# Altium footprint library misc.PcbLib: 26 footprints (part 1 of 2)
Each footprint in its own frame and in the unit in brackets; x right, y up, seen from the top. Pads: shape width x height; smd on the part's side, far side on the other; paste and mask are expansions set on the pad; w line width, h text height; cw(c..) or ccw(c..) is an arc to the next point about the centre after c.
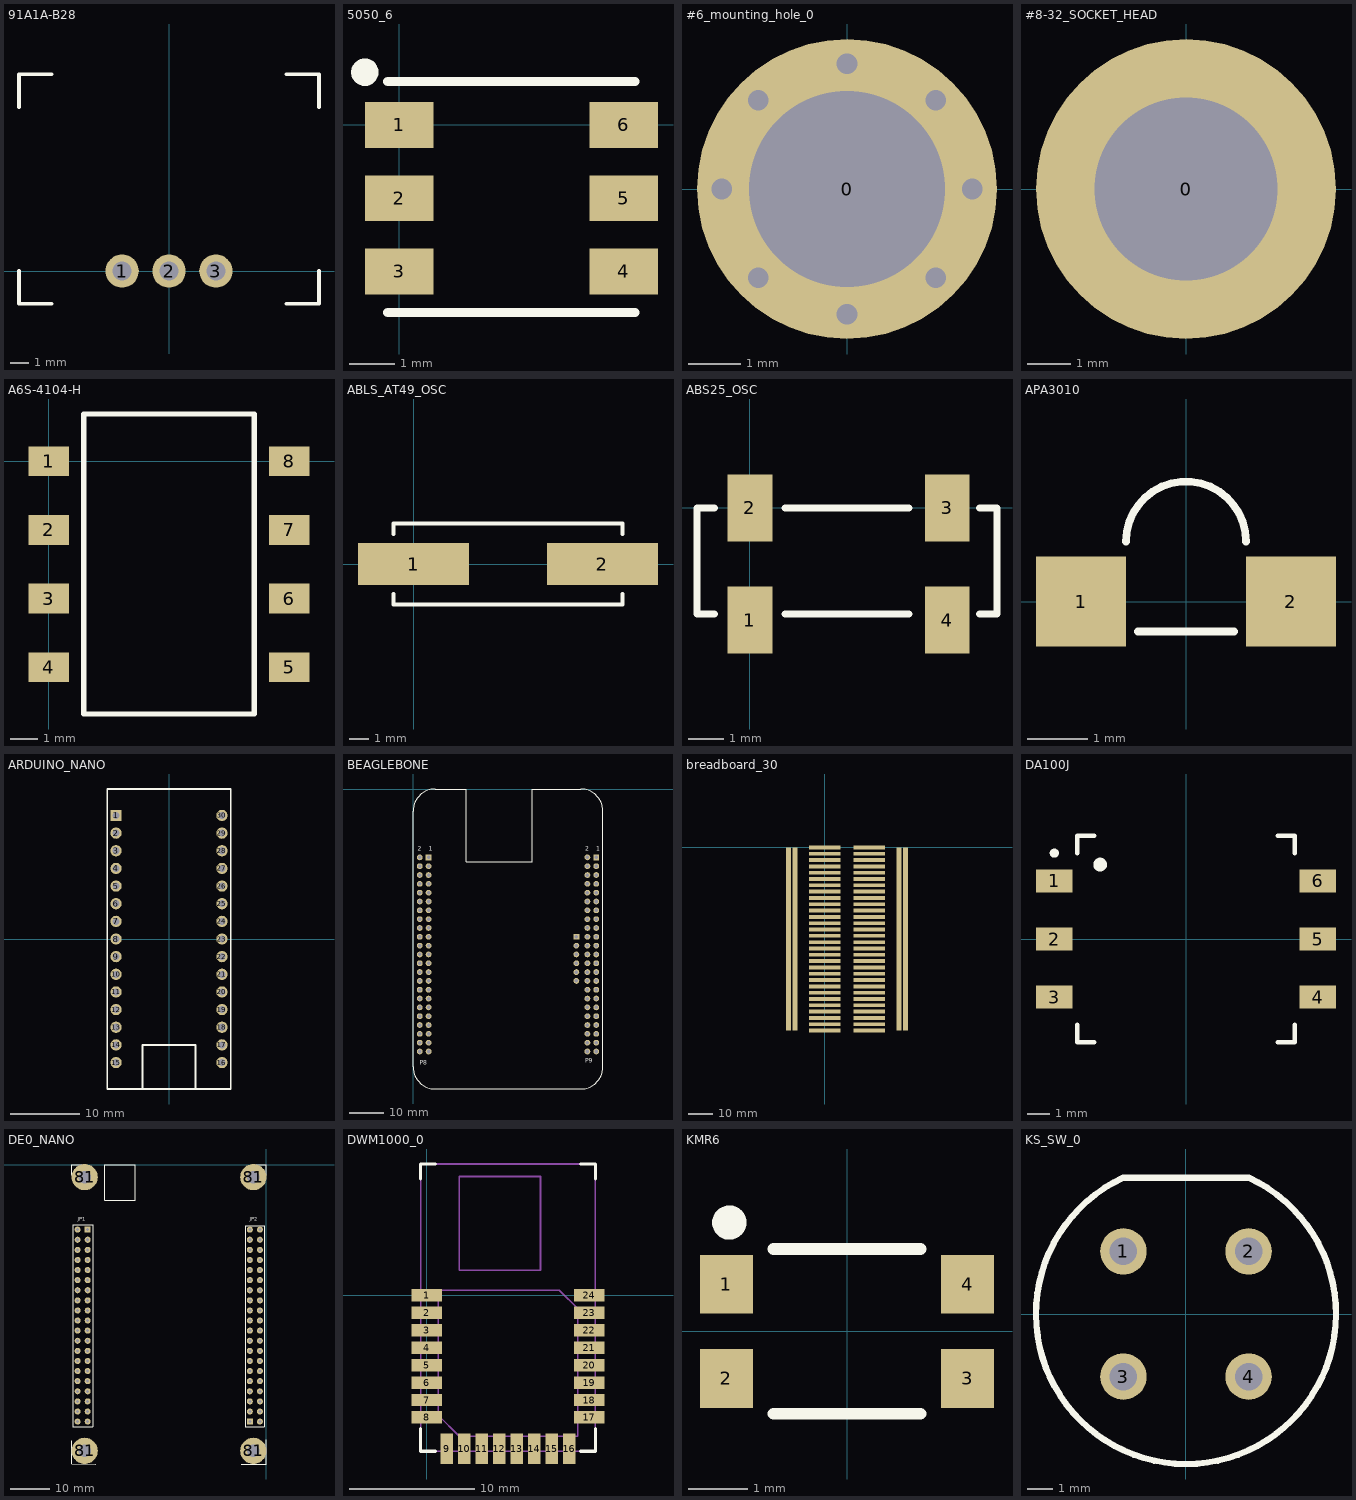
[diagram p0: the footprints below, top view; thin cyan lines are the x and y axes]

## 91A1A-B28 [mil] "Bourns Potentiometer"
pads (3):
  round 70 hole 40: 1(-98.43,0) 2(0,0) 3(98.43,0)
Top Overlay:
  lines w7.87: -314.96,0 -314.96,-68.9 -246.06,-68.9 ; -314.96,344.49 -314.96,413.39 -246.06,413.39 ; 246.06,-68.9 314.96,-68.9 314.96,0 ; 246.06,413.39 314.96,413.39 314.96,344.49
3D body "91A1A-B28.stp": height 687, standoff -600, extent -312.5,-65 312.5,1310

## 5050_6 [mm]
pads (6):
  rect 1.5x1 smd: 1(0,0) 2(0,-1.6) 3(0,-3.2) 4(4.9,-3.2) 5(4.9,-1.6) 6(4.9,0)
Top Overlay:
  circle w0.3: c-0.75,1.15 r0.15
  lines w0.2: -0.25,-4.1 5.15,-4.1 ; -0.25,0.95 5.15,0.95
3D body "11821.SLDPRT": height 1.73, standoff -0.02, extent -0.25,-4.1 5.15,0.9

## #6_mounting_hole_0 [mm]
pads (1):
  round 5.75 hole 3.75: 0(0,0)
via -1.7,1.7 diameter 0.8 hole 0.4
via -1.7,-1.7 diameter 0.8 hole 0.4
via 1.7,-1.7 diameter 0.8 hole 0.4
via 1.7,1.7 diameter 0.8 hole 0.4
via -2.4,0 diameter 0.8 hole 0.4
via 2.4,0 diameter 0.8 hole 0.4
via 0,-2.4 diameter 0.8 hole 0.4
via 0,2.4 diameter 0.8 hole 0.4

## #8-32_SOCKET_HEAD [mm] "Mounting hole for #8-32 socket head cap screw"
pads (1):
  round 6.9 hole 4.2: 0(0,0)

## A6S-4104-H [mm]
pads (8):
  rect 1.5x1.1 smd: 1(0,0) 2(0,-2.54) 3(0,-5.08) 4(0,-7.62) 5(8.9,-7.62) 6(8.9,-5.08) 7(8.9,-2.54) 8(8.9,0)
Top Overlay:
  lines w0.2: 1.3,-9.35 1.3,1.75 7.6,1.75 7.6,-9.35 1.3,-9.35
3D body "A6S_4104_H.step": height 4.4, standoff 0, extent -0.45,-9.35 9.35,1.75

## ABLS_AT49_OSC [mil] "ABLS Crystal Oscillator"
pads (2):
  rect 220x83 smd: 1(0,0) 2(374,0)
Top Overlay:
  lines w8: -39.37,-59.06 -39.37,-80 413.39,-80 413.39,-59.06 ; -39.37,59.06 -39.37,80 413.39,80 413.39,59.06

## ABS25_OSC [mil] "Abracon Tuning Fork Oscillators"
pads (4):
  rect 50x75 smd: 1(0,-125) 2(0,0) 3(220,0) 4(220,-125)
Top Overlay:
  lines w8: -39.37,-118.11 -59.06,-118.11 -59.06,0 -39.37,0 ; 39.37,-118.11 177.17,-118.11 ; 39.37,0 177.17,0 ; 255.91,-118.11 275.59,-118.11 275.59,-59.06 275.59,0 255.91,0

## APA3010 [mm] "SMD Right Angle LED"
pads (2):
  rect 1.5x1.5 smd: 1(-1.75,0) 2(1.75,0)
Top Overlay:
  lines w0.127: -1,1 cw(c0,1) 1,1 ; -0.8,-0.5 0.8,-0.5

## ARDUINO_NANO [mil] "Arduino Nano, ATMega328 Dev Board"
pads (30):
  rect 64x64 hole 40: 1(-300,700)
  round 64 hole 40: 2(-300,600) 3(-300,500) 4(-300,400) 5(-300,300) 6(-300,200) 7(-300,100) 8(-300,0) 9(-300,-100) 10(-300,-200) 11(-300,-300) 12(-300,-400) 13(-300,-500) 14(-300,-600) 15(-300,-700) 16(300,-700) 17(300,-600) 18(300,-500) 19(300,-400) 20(300,-300) 21(300,-200) 22(300,-100) 23(300,0) 24(300,100) 25(300,200) 26(300,300) 27(300,400) 28(300,500) 29(300,600) 30(300,700)
Top Overlay:
  lines w10: -150,-850 -150,-600 150,-600 150,-850 ; -350,-850 -350,850 350,850 350,-850 -350,-850

## BEAGLEBONE [mil] "Pin-header footprint for Beaglebone single board computers"
pads (98):
  rect 65x65 hole 40: 1(175,-775) 47(2075,-775) J1_1(1850,-1675)
  round 65 hole 40: 2(75,-775) 3(175,-875) 4(75,-875) 5(175,-975) 6(75,-975) 7(175,-1075) 8(75,-1075) 9(175,-1175) 10(75,-1175) 11(175,-1275) 12(75,-1275) 13(175,-1375) 14(75,-1375) 15(175,-1475) 16(75,-1475) 17(175,-1575) 18(75,-1575) 19(175,-1675) 20(75,-1675) 21(175,-1775) 22(75,-1775) 23(175,-1875) 24(75,-1875) 25(175,-1975) 26(75,-1975) 27(175,-2075) 28(75,-2075) 29(175,-2175) 30(75,-2175) 31(175,-2275) 32(75,-2275) 33(175,-2375) 34(75,-2375) 35(175,-2475) 36(75,-2475) 37(175,-2575) 38(75,-2575) 39(175,-2675) 40(75,-2675) 41(175,-2775) 42(75,-2775) 43(175,-2875) 44(75,-2875) 45(175,-2975) 46(75,-2975) 48(1975,-775) 49(2075,-875) 50(1975,-875) 51(2075,-975) 52(1975,-975) 53(2075,-1075) 54(1975,-1075) 55(2075,-1175) 56(1975,-1175) 57(2075,-1275) 58(1975,-1275) 59(2075,-1375) 60(1975,-1375) 61(2075,-1475) 62(1975,-1475) 63(2075,-1575) 64(1975,-1575) 65(2075,-1675) 66(1975,-1675) 67(2075,-1775) 68(1975,-1775) 69(2075,-1875) 70(1975,-1875) 71(2075,-1975) 72(1975,-1975) 73(2075,-2075) 74(1975,-2075) 75(2075,-2175) 76(1975,-2175) 77(2075,-2275) 78(1975,-2275) 79(2075,-2375) 80(1975,-2375) 81(2075,-2475) 82(1975,-2475) 83(2075,-2575) 84(1975,-2575) 85(2075,-2675) 86(1975,-2675) 87(2075,-2775) 88(1975,-2775) 89(2075,-2875) 90(1975,-2875) 91(2075,-2975) 92(1975,-2975) J1_2(1850,-1775) J1_3(1850,-1875) J1_4(1850,-1975) J1_5(1850,-2075) J1_6(1850,-2175)
Top Overlay:
  lines w10: 0,-3150 ccw(c250,-3150) 250,-3400 1900,-3400 ccw(c1900,-3150) 2150,-3150 2150,-250 ccw(c1900,-250) 1900,0 1350,0 1350,-825 600,-825 600,0 250,0 ccw(c250,-250) 0,-250 0,-3150
  text "P9" at 1950,-3100 h50
  text "P8" at 75,-3125 h50
  text "1" at 175,-700 h50
  text "2" at 50,-700 h50
  text "2" at 1950,-700 h50
  text "1" at 2075,-700 h50
3D body "hddr_male_23x2.SLDPRT": height 336.22, standoff -118.11, extent 25.59,-3024.8 225.59,-724.8
3D body "hddr_male_23x2.SLDPRT": height 336.22, standoff -118.11, extent 1924.8,-3024.8 2124.8,-724.8
3D body "socket_6x1_100mil.SLDPRT": height 328.74, standoff -127.95, extent 1800.79,-2225.79 1899.22,-1625.79

## breadboard_30 [mil]
pads (64):
  rect 500x60 smd: 1(0,0) 2(0,-100) 3(0,-200) 4(0,-300) 5(0,-400) 6(0,-500) 7(0,-600) 8(0,-700) 9(0,-800) 10(0,-900) 11(0,-1000) 12(0,-1100) 13(0,-1200) 14(0,-1300) 15(0,-1400) 16(0,-1500) 17(0,-1600) 18(0,-1700) 19(0,-1800) 20(0,-1900) 21(0,-2000) 22(0,-2100) 23(0,-2200) 24(0,-2300) 25(0,-2400) 26(0,-2500) 27(0,-2600) 28(0,-2700) 29(0,-2800) 30(0,-2900) 31(700,0) 32(700,-100) 33(700,-200) 34(700,-300) 35(700,-400) 36(700,-500) 37(700,-600) 38(700,-700) 39(700,-800) 40(700,-900) 41(700,-1000) 42(700,-1100) 43(700,-1200) 44(700,-1300) 45(700,-1400) 46(700,-1500) 47(700,-1600) 48(700,-1700) 49(700,-1800) 50(700,-1900) 51(700,-2000) 52(700,-2100) 53(700,-2200) 54(700,-2300) 55(700,-2400) 56(700,-2500) 57(700,-2600) 58(700,-2700) 59(700,-2800) 60(700,-2900)
  rect 80x2900 smd: 61(-575,-1450) 62(-475,-1450) 63(1175,-1450) 64(1275,-1450)

## DA100J [mm] "Murata DA100J Pulse Transformer Series"
pads (6):
  rect 1.6x1 smd: 1(-5.75,2.54) 2(-5.75,0) 3(-5.75,-2.54) 4(5.75,-2.54) 5(5.75,0) 6(5.75,2.54)
Top Overlay:
  circle w0.2: c-5.75,3.75 r0.1
  circle w0.3: c-3.75,3.25 r0.15
  lines w0.2: -4.75,-3.75 -4.75,-4.5 -4,-4.5 ; -4.75,3.75 -4.75,4.5 -4,4.5 ; 4,-4.5 4.75,-4.5 4.75,-3.75 ; 4,4.5 4.75,4.5 4.75,3.75
3D body: height 6.5, standoff 0, extent -4.75,-4.5 4.75,4.5

## DE0_NANO [mil] "Footprint for DE0 Nano GPIO Expansion Headers"
pads (84):
  rect 60x60 hole 30: 1(-1770,-640) 41(-165,-2540)
  round 60 hole 30: 2(-1869.92,-640) 3(-1769.92,-740) 4(-1869.92,-740) 5(-1769.92,-840) 6(-1869.92,-840) 7(-1769.92,-940) 8(-1869.92,-940) 9(-1769.92,-1040) 10(-1869.92,-1040) 11(-1769.92,-1140) 12(-1869.92,-1140) 13(-1769.92,-1240) 14(-1869.92,-1240) 15(-1769.92,-1340) 16(-1869.92,-1340) 17(-1769.92,-1440) 18(-1869.92,-1440) 19(-1769.92,-1540) 20(-1869.92,-1540) 21(-1769.92,-1640) 22(-1869.92,-1640) 23(-1769.92,-1740) 24(-1869.92,-1740) 25(-1769.92,-1840) 26(-1869.92,-1840) 27(-1769.92,-1940) 28(-1869.92,-1940) 29(-1769.92,-2040) 30(-1869.92,-2040) 31(-1769.92,-2140) 32(-1869.92,-2140) 33(-1769.92,-2240) 34(-1869.92,-2240) 35(-1769.92,-2340) 36(-1869.92,-2340) 37(-1769.92,-2440) 38(-1869.92,-2440) 39(-1769.92,-2540) 40(-1869.92,-2540) 42(-64.96,-2540.16) 43(-165,-2440) 44(-65,-2440) 45(-165,-2340) 46(-65,-2340) 47(-165,-2240) 48(-65,-2240) 49(-165,-2140) 50(-65,-2140) 51(-165,-2040) 52(-65,-2040) 53(-165,-1940) 54(-65,-1940) 55(-165,-1840) 56(-65,-1840) 57(-165,-1740) 58(-65,-1740) 59(-165,-1640) 60(-65,-1640) 61(-165,-1540) 62(-65,-1540) 63(-165,-1440) 64(-65,-1440) 65(-165,-1340) 66(-65,-1340) 67(-165,-1240) 68(-65,-1240) 69(-165,-1140) 70(-65,-1140) 71(-165,-1040) 72(-65,-1040) 73(-165,-940) 74(-65,-940) 75(-165,-840) 76(-65,-840) 77(-165,-740) 78(-65,-740) 79(-165,-640) 80(-65,-640)
  round 259.84 hole 125.98: 81(-1800,-2829.92) 81(-1800,-120.08) 81(-129.92,-2829.92) 81(-129.92,-120.08)
Top Overlay:
  lines w5: -1930,-2730 -1930,-2959.84 -1690,-2960 ; -1930,-100 -1930,0 -1920,0 -1830,0 ; -250,-2960 0,-2960 0,-2720 ; -100,0 0,0 0,-100 ; -1919.92,-2590 -1919.92,-590 -1719.92,-590 -1719.92,-2590 -1919.92,-2590 ; -1600,-350 -1300,-350 -1300,0 -1600,0 -1600,-350 ; -210.04,-2590 -210.04,-600 -20.04,-600 -20.04,-2590 -210.04,-2590
  text "JP1" at -1870,-550 h35
  text "JP2" at -165,-550 h35

## DWM1000_0 [mm]
pads (24):
  rect 2.45x1 smd: 1(0,0) 2(0,-1.4) 3(0,-2.8) 4(0,-4.2) 5(0,-5.6) 6(0,-7) 7(0,-8.4) 8(0,-9.8) 17(13,-9.8) 18(13,-8.4) 19(13,-7) 20(13,-5.6) 21(13,-4.2) 22(13,-2.8) 23(13,-1.4) 24(13,0)
  rect 1x2.45 smd: 9(1.6,-12.3) 10(3,-12.3) 11(4.4,-12.3) 12(5.8,-12.3) 13(7.2,-12.3) 14(8.6,-12.3) 15(10,-12.3) 16(11.4,-12.3)
Top Overlay:
  lines w0.254: -0.5,-10.7 -0.5,-12.5 0.7,-12.5 ; -0.5,9.3 -0.5,10.5 0.7,10.5 ; 12.3,-12.5 13.5,-12.5 13.5,-10.7 ; 12.3,10.5 13.5,10.5 13.5,9.3
Mechanical 13:
  lines w0.127: -0.5,-12.5 13.5,-12.5 13.5,10.5 -0.5,10.5 -0.5,-12.5 ; 0.9,-9.6 0.9,0.4 10.6,0.4 12.1,-1.1 12.1,-11.3 2.6,-11.3 0.9,-9.6 ; 2.6,2 9.1,2 9.1,9.5 2.6,9.5 2.6,2
3D body: height 2, standoff 0, extent 2.6,2 9.1,9.5
3D body: height 2.95, standoff 0, extent 0.9,-11.3 12.1,0.4
3D body: height 1, standoff 0, extent -0.5,-12.5 13.5,10.5

## KMR6 [mm] "C&K KMR6 Series Tactile Switch"
pads (4):
  rect 0.9x1 smd: 1(-2.05,0.8) 2(-2.05,-0.8) 3(2.05,-0.8) 4(2.05,0.8)
Top Overlay:
  circle w0.3: c-2,1.85 r0.141
  lines w0.2: -1.25,-1.4 1.25,-1.4 ; -1.25,1.4 1.25,1.4
3D body "KMR621NG_LFS.STEP": height 1.9, standoff 0, extent -2.3,-1.4 2.3,1.4

## KS_SW_0 [mil] "E-Switch KS Series Switches, 5mm Square"
pads (4):
  round 73 hole 43: 1(-98.43,98.57) 2(98.57,98.57) 3(-98.43,-98.43) 4(98.57,-98.43)
Top Overlay:
  lines w10: -99.66,213.96 ccw(c0.07,0.07) 99.81,213.96 ; -98.43,214.57 98.57,214.57
3D body "KS_SW.SLDPRT": height 564.96, standoff -135.83, extent -236.21,-234.25 236.2,218.5